# Altium schematic symbol library QPL7420TR7.SchLib: 1 symbol
Pins are listed as number, name and electrical type; pins without a type are passive.

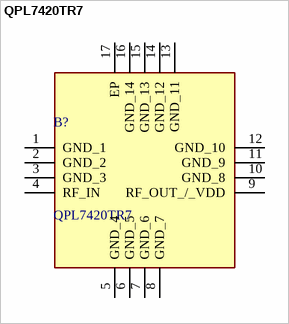
[diagram p0: symbol QPL7420TR7]

## QPL7420TR7
designator B?
5  1800 MHz 75 Ohm 20 dB CATV Amplifier; Manufacturer_Name: Qorvo; Geometry.Height: 0.9mm; Manufacturer_Part_Number: QPL7420TR7; Mouser Part Number: 772-QPL7420TR7; Mouser Price/Stock: https://www.mouser.co.uk/ProductDetail/Qorvo/QPL7420TR7?qs=3Rah4i%252BhyCEDyXYZgQlE2Q%3D%3D; Arrow Part Number: *; Arrow Price/Stock: *; Datasheet Link: https://www.qorvo.com/products/d/da008608
footprint QFN50P300X300X90-17N-D
pins: 1 GND_1, 2 GND_2, 3 GND_3, 4 RF_IN, 5 GND_4, 6 GND_5, 7 GND_6, 8 GND_7, 9 RF_OUT_/_VDD, 10 GND_8, 11 GND_9, 12 GND_10, 13 GND_11, 14 GND_12, 15 GND_13, 16 GND_14, 17 EP